# EAGLE library part ESP8266_SMD (library esp8266)
ESP8266 SMD Breakout Board R2 from Electrodragon. http://www.electrodragon.com/product/esp8266-smd-adapter-board/
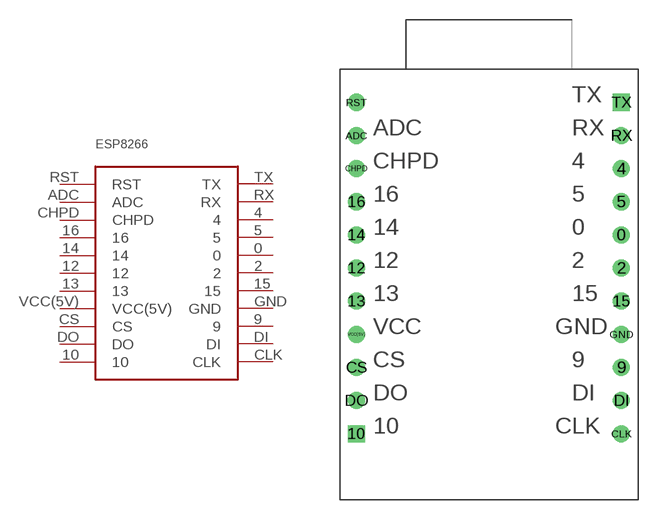
[diagram p0: symbol with the pads of ESP8266_SMD; footprint ESP8266_SMD]

Designator prefix ESP8266

## ESP8266_SMD  [ESP8266_SMD]
0  0
2  2
4  4
5  5
9  9
10  10
12  12
13  13
14  14
15  15
16  16
ADC  ADC
CHPD  CHPD
CLK  CLK
CS  CS
DI  DI
DO  DO
GND  GND
RST  RST
RX  RX
TX  TX
VCC(5V)  VCC(5V)

## Footprint ESP8266_SMD (pad centres in mm)
drill 0.8: 0 20.32,15.24; 2 20.32,12.7; 4 20.32,20.32; 5 20.32,17.78; 9 20.32,5.08; 12 0,12.7; 13 0,10.16; 14 0,15.24; 15 20.32,10.16; 16 0,17.78; ADC 0,22.86; CHPD 0,20.32; CLK 20.32,0; CS 0,5.08; DI 20.32,2.54; DO 0,2.54; GND 20.32,7.62; RST 0,25.4; RX 20.32,22.86; VCC(5V) 0,7.62
drill 0.8 square: 10 0,0; TX 20.32,25.4